# EAGLE library part AD8030 (library IC)
Analog Devices AD8030 Dual Op Amp
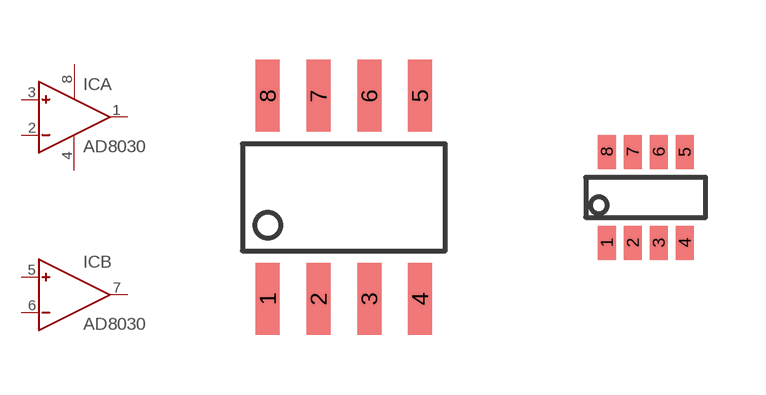
[diagram p63: symbol with the pads of SOIC8; footprints SOIC8, SOT23-8]

Designator prefix IC; gates A=OPAMP-PWR B=OPAMP

## AD8030AR  [SOIC8]
1  A:OUT  out
2  A:IN-  in
3  A:IN+  in
4  A:V-  pwr
5  B:IN+  in
6  B:IN-  in
7  B:OUT  out
8  A:V+  pwr

## AD8030ARJ  [SOT23-8]
Pads as for SOIC8

## Footprint SOIC8 (pad centres in mm)
8 pin SOIC 150-mil package
smd 0.6 x 1.8: 1 -1.905,-2.54; 2 -0.635,-2.54; 3 0.635,-2.54; 4 1.905,-2.54; 5 1.905,2.54; 6 0.635,2.54; 7 -0.635,2.54; 8 -1.905,2.54

## Footprint SOT23-8 (pad centres in mm)
smd 0.45 x 0.85: 1 -0.975,-1.137; 2 -0.325,-1.137; 3 0.325,-1.137; 4 0.975,-1.137; 5 0.975,1.137; 6 0.325,1.137; 7 -0.325,1.137; 8 -0.975,1.137